# EAGLE library part LN518RK (library Jeff)
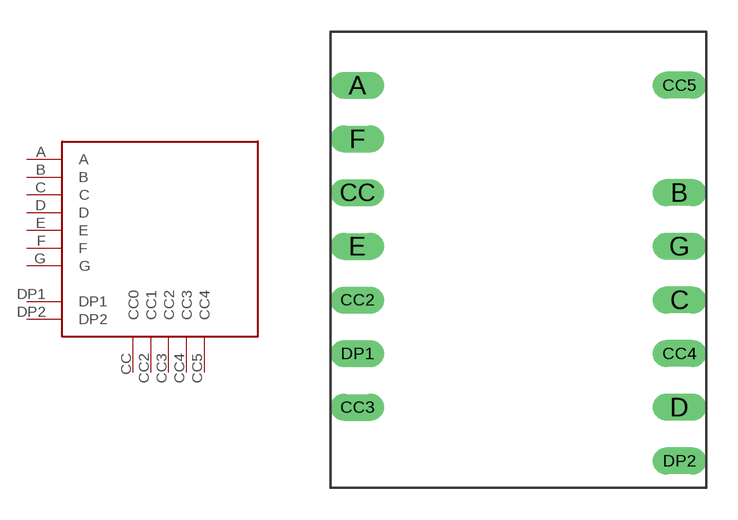
[diagram p0: symbol with the pads of LN518RK; footprint LN518RK]

Designator prefix -

## LN518RK  [LN518RK]
A  A  in
B  B  in
C  C  in
CC  CC0  pwr
CC2  CC1  pwr
CC3  CC2  pwr
CC4  CC3  pwr
CC5  CC4  pwr
D  D  in
DP1  DP1  in
DP2  DP2  in
E  E  in
F  F  in
G  G  in

## Footprint LN518RK (pad centres in mm)
drill 0.5 pad 1.27 long: A -7.62,7.62; B 7.62,2.54; C 7.62,-2.54; CC -7.62,2.54; CC2 -7.62,-2.54; CC3 -7.62,-7.62; CC4 7.62,-5.08; CC5 7.62,7.62; D 7.62,-7.62; DP1 -7.62,-5.08; DP2 7.62,-10.16; E -7.62,0; F -7.62,5.08; G 7.62,0